# Altium footprint library sensor.PcbLib: 2 footprints
Each footprint in its own frame and in the unit in brackets; x right, y up, seen from the top. Pads: shape width x height; smd on the part's side, far side on the other; paste and mask are expansions set on the pad; w line width, h text height; cw(c..) or ccw(c..) is an arc to the next point about the centre after c.
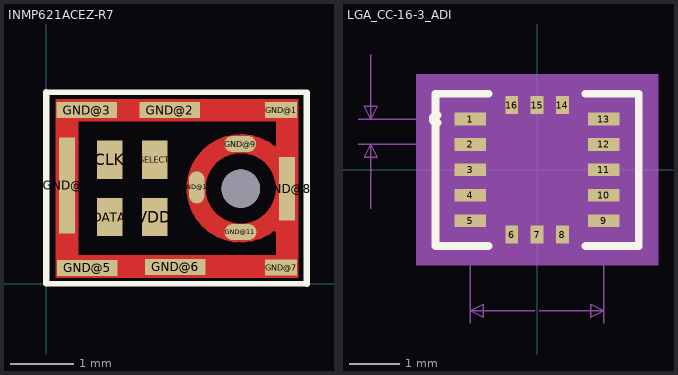
[diagram p0: the footprints below, top view; thin cyan lines are the x and y axes]

## INMP621ACEZ-R7 [mm]
pads (16):
  rect 0.4x0.6 smd: CLK(1,1.944) DATA(1,1.044) SELECT(1.7,1.944) VDD(1.7,1.044)
  rect 0.5x0.25 smd: GND@1(3.68,2.719) GND@7(3.68,0.254)
  rect 0.95x0.25 smd: GND@2(1.935,2.719) GND@3(0.635,2.719) GND@5(0.645,0.249) GND@6(2.025,0.264)
  rect 0.25x1.5 smd: GND@4(0.325,1.539)
  rect 0.25x1 smd: GND@8(3.775,1.489)
  oval 0.5x0.25 smd: GND@9(3.04,2.189) GND@11(3.045,0.809)
  oval 0.25x0.5 smd: GND@10(2.36,1.509)
  round 0.6 hole 0.6 unplated: ""(3.05,1.49)
Top Layer:
  circle w0.3: c3.05,1.494 r0.7
  region: 3.95,0.094 0.15,0.094 0.15,0.444 3.95,0.444
  region: 0.5,0.444 0.15,0.444 0.15,0.094 0.5,0.094 0.15,0.094 0.15,2.894 0.5,2.894
  region: 3.95,0.444 3.605,0.444 3.605,2.894 3.95,2.894
  region: 0.15,2.544 0.15,2.894
  region: 3.605,2.544 0.5,2.544 0.5,2.894 3.605,2.894
  region: 3.605,0.803 3.597,0.809 3.585,0.819 3.573,0.827 3.56,0.835 3.547,0.842 3.533,0.849 3.519,0.855 3.504,0.86 3.49,0.864 3.475,0.868 3.46,0.87 3.445,0.872 3.43,0.874 3.415,0.874 3.605,0.874
  region: 3.605,2.173 3.595,2.166 3.579,2.154 3.562,2.144 3.545,2.135 3.527,2.126 3.509,2.119 3.491,2.112 3.472,2.107 3.453,2.102 3.434,2.099 3.414,2.096 3.394,2.094 3.393,2.094 3.375,2.094 3.393,2.094 3.411,2.096 3.43,2.098 3.448,2.102 3.465,2.106 3.483,2.111 3.5,2.117 3.517,2.124 3.534,2.132 3.55,2.141 3.565,2.15 3.581,2.161 3.595,2.172 3.605,2.181
Top Overlay:
  lines w0.1: -0.001,0.004 4.08,-0.003 4.08,2.997 -0.001,3.004 -0.001,0.004
Top Solder:
  region: 3.947,2.545 0.153,2.545 0.153,2.891 3.947,2.891
  region: 3.947,0.094 3.599,0.094 3.599,2.543 3.947,2.543
  region: 0.498,0.089 0.15,0.089 0.15,2.896 0.498,2.896
  region: 3.95,0.094 0.15,0.094 0.15,0.445 3.95,0.445
3D body "step_temp.STEP": height 1.1, standoff 0, extent 0,0 4,3

## LGA_CC-16-3_ADI [mm]
pads (16):
  rect 0.62x0.25 smd: 1(-1.313,1) 2(-1.313,0.5) 3(-1.313,0) 4(-1.313,-0.5) 5(-1.313,-1) 9(1.313,-1) 10(1.313,-0.5) 11(1.313,0) 12(1.313,0.5) 13(1.313,1)
  rect 0.25x0.35 smd: 6(-0.5,-1.275) 7(0,-1.275) 8(0.5,-1.275) 14(0.5,1.275) 15(0,1.275) 16(-0.5,1.275)
Top Overlay:
  lines w0.152: -1.955,0.926 cw(c-1.974,1) -1.955,1.074 ; -0.954,-1.5 -2,-1.5 -2,1.5 -0.954,1.5 ; 0.954,-1.5 2,-1.5 2,1.5 0.954,1.5
Mechanical 5:
  region: -2.381,1.881 2.381,1.881 2.381,-1.881 -2.381,-1.881
Mechanical 7:
  lines w0.025: -3.524,0.5 -1.313,0.5 ; -3.524,1 -1.313,1 ; -3.27,-0.77 -3.27,0.5 ; -3.27,2.27 -3.27,1 ; -1.313,-3.024 -1.313,-1 ; -0.043,-2.77 -1.313,-2.77 ; 0.043,-2.77 1.313,-2.77 ; 1.313,-3.024 1.313,-1 ; -3.27,0.5 -3.397,0.246 -3.143,0.246 -3.27,0.5 ; -3.27,1 -3.397,1.254 -3.143,1.254 -3.27,1 ; -1.313,-2.77 -1.059,-2.643 -1.059,-2.897 -1.313,-2.77 ; 1.313,-2.77 1.059,-2.643 1.059,-2.897 1.313,-2.77
  text ".10335in/2.625mm" at -2.54,-3.405 h0.64
  text ".01969in/.5mm" at -7.651,0.433 h0.64
  text "Alt 2 Padstyle: OX90Y60D30P" at -8.572,-12.676 h1.27
  text "Alt 1 Padstyle: OX60Y90D30P" at -8.572,-11.152 h1.27
  text "Pin 1 Padstyle: RX24p41Y9p84D0T" at -9.842,-8.104 h1.27
  text "Default Padstyle: RX13.78Y9.84D0T" at -10.477,-6.58 h1.27
Mechanical 13:
  circle w0: c-1.974,1 r0.076
  lines w0: -0.333,1.5 ccw(c0,1.5) 0.333,1.5
  lines w0.025: -2,-1.5 2,-1.5 2,1.5 -2,1.5 -2,-1.5
Mechanical 15:
  region: 2.254,-1.754 -2.254,-1.754 -2.254,1.754 2.254,1.754
  lines w0.152: -2.254,-1.754 2.254,-1.754 2.254,1.754 -2.254,1.754 -2.254,-1.754
3D body: height 0.25, standoff 0, extent 0,0 0.254,0.254